# Altium footprint library Connector_SMD.PcbLib: 33 footprints (part 2 of 3)
Each footprint in its own frame and in the unit in brackets; x right, y up, seen from the top. Pads: shape width x height; smd on the part's side, far side on the other; paste and mask are expansions set on the pad; w line width, h text height; cw(c..) or ccw(c..) is an arc to the next point about the centre after c.
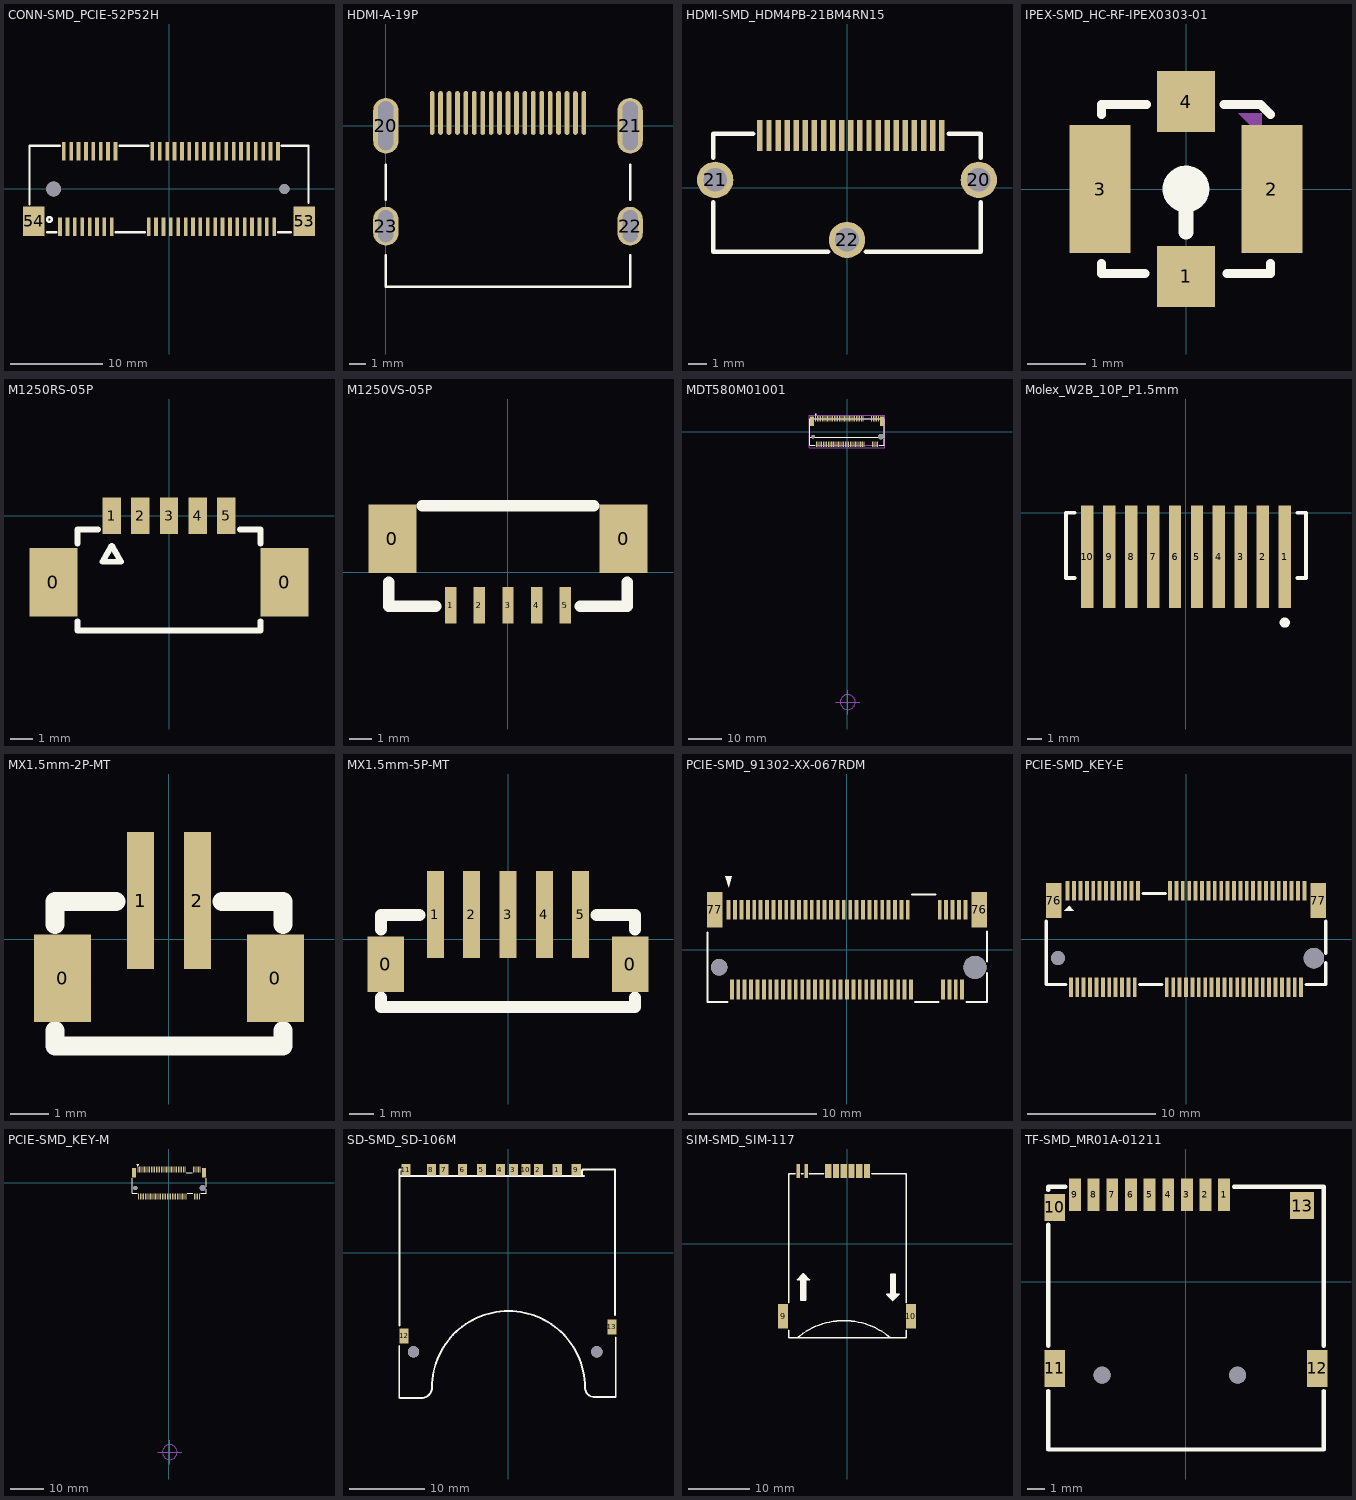
[diagram p1: the footprints below, top view; thin cyan lines are the x and y axes]

## CONN-SMD_PCIE-52P52H [mm]
pads (56):
  rect 0.4x2 smd: 1(-11.8,-4.1) 2(-11.4,4.1) 3(-11,-4.1) 4(-10.6,4.1) 5(-10.2,-4.1) 6(-9.8,4.1) 7(-9.4,-4.1) 8(-9,4.1) 9(-8.6,-4.1) 10(-8.2,4.1) 11(-7.8,-4.1) 12(-7.4,4.1) 13(-7,-4.1) 14(-6.6,4.1) 15(-6.2,-4.1) 16(-5.8,4.1) 17(-2.2,-4.1) 18(-1.8,4.1) 19(-1.4,-4.1) 20(-1,4.1) 21(-0.6,-4.1) 22(-0.2,4.1) 23(0.2,-4.1) 24(0.6,4.1) 25(1,-4.1) 26(1.4,4.1) 27(1.8,-4.1) 28(2.2,4.1) 29(2.6,-4.1) 30(3,4.1) 31(3.4,-4.1) 32(3.8,4.1) 33(4.2,-4.1) 34(4.6,4.1) 35(5,-4.1) 36(5.4,4.1) 37(5.8,-4.1) 38(6.2,4.1) 39(6.6,-4.1) 40(7,4.1) 41(7.4,-4.1) 42(7.8,4.1) 43(8.2,-4.1) 44(8.6,4.1) 45(9,-4.1) 46(9.4,4.1) 47(9.8,-4.1) 48(10.2,4.1) 49(10.6,-4.1) 50(11,4.1) 51(11.4,-4.1) 52(11.8,4.1)
  rect 2.3x3.2 smd: 53(14.65,-3.5) 54(-14.65,-3.5)
  round 1.6 hole 1.6 unplated: ""(-12.5,0)
  round 1.1 hole 1.1 unplated: ""(12.5,0)
Top Overlay:
  circle w0.254: c-12.954,-3.302 r0.254
  lines w0.254: -15.113,-1.651 -15.113,4.699 -11.831,4.699 ; -13.208,-4.699 -12.231,-4.699 ; -5.769,-4.699 -2.631,-4.699 ; -5.369,4.699 -2.231,4.699 ; 11.831,-4.699 13.208,-4.699 ; 12.231,4.699 15.113,4.699 15.113,-1.524

## HDMI-A-19P [mm]
pads (23):
  oval 0.28x2.6 smd: 1(11.75,0.76) 2(11.25,0.76) 3(10.75,0.76) 4(10.25,0.76) 5(9.75,0.76) 6(9.25,0.76) 7(8.75,0.76) 8(8.25,0.76) 9(7.75,0.76) 10(7.25,0.76) 11(6.75,0.76) 12(6.25,0.76) 13(5.75,0.76) 14(5.25,0.76) 15(4.75,0.76) 16(4.25,0.76) 17(3.75,0.76) 18(3.25,0.76) 19(2.75,0.76)
  oval 1.5x3.3 hole 0.9 slot 2.9 at 90 deg: 20(0,0) 21(14.5,0)
  oval 1.5x2.3 hole 0.9 slot 1.9 at 90 deg: 22(14.5,-5.96) 23(0,-5.96)
Top Overlay:
  lines w0.15: 0,-7.696 0,-9.568 14.5,-9.568 14.5,-7.696 ; 0,-4.394 0,-2.311 ; 14.5,-4.394 14.5,-2.311
3D body "1747981-1.stp": height 6.13, standoff -2.15, extent -0.229,-10.343 14.772,1.657

## HDMI-SMD_HDM4PB-21BM4RN15 [mm]
pads (24):
  rect 0.3x1.7 smd: 0(4.71,2.875) 0(5.21,2.875) 1(4.21,2.875) 2(3.71,2.875) 3(3.21,2.875) 4(2.71,2.875) 5(2.21,2.875) 6(1.71,2.875) 7(1.21,2.875) 8(0.71,2.875) 9(0.21,2.875) 10(-0.29,2.875) 11(-0.79,2.875) 12(-1.29,2.875) 13(-1.79,2.875) 14(-2.29,2.875) 15(-2.79,2.875) 16(-3.29,2.875) 17(-3.79,2.875) 18(-4.29,2.875) 19(-4.79,2.875)
  round 2 hole 1.3: 20(7.25,0.425) 21(-7.25,0.425) 22(0,-2.875)
Top Overlay:
  lines w0.254: -7.366,-0.801 -7.366,-3.52 -1.048,-3.52 ; -7.366,1.651 -7.366,2.957 -5.207,2.957 ; -5.334,2.957 -5.171,2.957 ; 1.048,-3.52 7.366,-3.52 7.366,-0.801 ; 5.591,2.957 7.366,2.957 7.366,1.651
3D body "CN1.stp": height 13, standoff -2.7, extent -7.499,-3.094 7.499,3.206

## IPEX-SMD_HC-RF-IPEX0303-01 [mm]
pads (4):
  rect 1x1.05 smd: 1(0,-1.5) 4(0,1.5)
  rect 1.05x2.2 smd: 2(1.475,0) 3(-1.475,0)
Top Overlay:
  circle w0.4: c0,0 r0.2
  lines w0.152: -1.45,-1.28 -1.45,-1.3 -1.45,-1.45 -0.701,-1.45 ; -1.45,1.28 -1.45,1.4 -1.45,1.45 -1.4,1.45 -0.68,1.45 ; 0.65,1.45 1.1,1.45 1.28,1.45 1.45,1.28 1.447,1.28 1.277,1.45 ; 0.701,-1.45 1.097,-1.45 1.45,-1.45 1.45,-1.3 1.45,-1.28
  lines w0.254: 0,-0.744 0,-0.3
Mechanical 15:
  circle w0.4: c0,-1.45 r0.2
  region: 1.3,0.9 1.3,1.3 0.9,1.3

## M1250RS-05P [mm]
pads (7):
  rect 2.1x3 smd: 0(-5.05,-2.9) 0(5.05,-2.9)
  rect 0.8x1.6 smd: 1(-2.5,0) 2(-1.25,0) 3(0,0) 4(1.25,0) 5(2.5,0)
Top Overlay:
  lines w0.254: -4,-4.6 -4,-5 4,-5 4,-4.6 ; -4,-1.2 -4,-0.6 -3.1,-0.6 ; 3.1,-0.6 4,-0.6 4,-1.2 ; -2.9,-2 -2.1,-2 -2.5,-1.3 -2.9,-2
3D body: height 3.7, standoff 0, extent -4,-5 4,-0.6

## M1250VS-05P [mm]
pads (7):
  rect 2.1x3 smd: 0(-5.05,1.45) 0(5.05,1.45)
  rect 0.5x1.6 smd: 1(-2.5,-1.45) 2(-1.25,-1.45) 3(0,-1.45) 4(1.25,-1.45) 5(2.5,-1.45)
Top Overlay:
  lines w0.5: -5.2,-0.45 -5.2,-1.5 -3.15,-1.5 ; -3.75,2.9 3.75,2.9 ; 3.15,-1.5 5.2,-1.5 5.2,-0.45
3D body: height 4.7, standoff 0, extent -5.2,-1.5 5.2,2.9

## MDT580M01001 [mm]
pads (71):
  rect 0.3x1.55 smd: 1(-9.25,3.775) 2(-9,-3.775) 3(-8.75,3.775) 4(-8.5,-3.775) 5(-8.25,3.775) 6(-8,-3.775) 7(-7.75,3.775) 8(-7.5,-3.775) 9(-7.25,3.775) 10(-7,-3.775) 11(-6.75,3.775) 12(-6.5,-3.775) 13(-6.25,3.775) 14(-6,-3.775) 15(-5.75,3.775) 16(-5.5,-3.775) 17(-5.25,3.775) 18(-5,-3.775) 19(-4.75,3.775) 20(-4.5,-3.775) 21(-4.25,3.775) 22(-4,-3.775) 23(-3.75,3.775) 24(-3.5,-3.775) 25(-3.25,3.775) 26(-3,-3.775) 27(-2.75,3.775) 28(-2.5,-3.775) 29(-2.25,3.775) 30(-2,-3.775) 31(-1.75,3.775) 32(-1.5,-3.775) 33(-1.25,3.775) 34(-1,-3.775) 35(-0.75,3.775) 36(-0.5,-3.775) 37(-0.25,3.775) 38(0,-3.775) 39(0.25,3.775) 40(0.5,-3.775) 41(0.75,3.775) 42(1,-3.775) 43(1.25,3.775) 44(1.5,-3.775) 45(1.75,3.775) 46(2,-3.775) 47(2.25,3.775) 48(2.5,-3.775) 49(2.75,3.775) 50(3,-3.775) 51(3.25,3.775) 52(3.5,-3.775) 53(3.75,3.775) 54(4,-3.775) 55(4.25,3.775) 56(4.5,-3.775) 57(4.75,3.775) 58(5,-3.775) 67(7.25,3.775) 68(7.5,-3.775) 69(7.75,3.775) 70(8,-3.775) 71(8.25,3.775) 72(8.5,-3.775) 73(8.75,3.775) 74(9,-3.775) 75(9.25,3.775)
  round 1.1 hole 1.1 unplated: None(-10,-1.5)
  round 1.6 hole 1.6 unplated: None(10,-1.5)
  rect 1.2x2.75 smd: SH1(-10.35,3) SH2(10.35,3)
Top Overlay:
  circle w0.2: c-9.225,5.075 r0.1
  lines w0.1: -10.95,-4 -10.95,-1.75 -8.76,-1.75
  lines w0.127: -10.95,1 -10.95,-4 -9.5,-4 ; -10.575,3.75 -6.175,3.75 ; -6.075,3.75 10.575,3.75 10.95,3.75 ; 6.075,-1.75 -10.575,-1.75 -10.95,-1.75 ; 6.175,-1.75 10.575,-1.75 10.95,-1.75 ; 9.5,-4 10.95,-4 10.95,-2.1 ; 10.95,-0.9 10.95,1 ; -10.95,-1.75 -10.95,3.75 ; -10.95,-1.75 -10.95,3.75 ; -10.95,3.75 10.95,3.75 ; 10.95,-1.75 10.95,3.75 ; 10.95,-1.75 10.95,3.75
Mechanical 3:
  circle w0.2: c0.223,-79.843 r2.209
  lines w0.2: -3.298,-79.843 0.223,-79.843 ; 0.223,-83.364 0.223,-79.843 ; 0.223,-76.323 0.223,-79.843 ; 3.743,-79.843 0.223,-79.843
Mechanical 4:
  circle w0.2: c-9.25,4.115 r0.1
  circle w0.2: c-9.25,4.115 r0.1
  lines w0.127: -10.95,-4 10.95,-4 ; -10.95,-4 -10.95,3.75 ; -10.95,-4 10.95,-4 ; -10.95,-4 -10.95,3.75 ; -10.95,3.75 10.95,3.75 ; -10.95,3.75 10.95,3.75 ; 10.95,-4 10.95,3.75 ; 10.95,-4 10.95,3.75
Mechanical 16:
  lines w0.05: -11.2,-4.8 11.2,-4.8 11.2,4.8 -11.2,4.8 -11.2,-4.8
3D body "M-mdt580m0x001.step": height 5.95, standoff -0.6, extent -10.99,-4.27 11.01,4.28

## Molex_W2B_10P_P1.5mm [mm]
pads (10):
  rect 0.85x7 smd paste-1 mask+0.102: 1(6.75,-3)
  rect 0.85x7 smd paste-1: 2(5.25,-3) 3(3.75,-3) 4(2.25,-3) 5(0.75,-3) 6(-0.75,-3) 7(-2.25,-3) 8(-3.75,-3) 9(-5.25,-3) 10(-6.75,-3)
Top Overlay:
  circle w0.5: c6.75,-7.5 r0.1
  lines w0.254: -7.6,-4.45 -8.2,-4.45 -8.2,0 -7.6,0 ; 7.6,-4.45 8.2,-4.45 8.2,0 7.6,0
Top Paste:
  rectangle: -7.175,-6.5 -6.325,-3.95
  rectangle: -7.175,-2.95 -6.325,0.5
  rectangle: -5.675,-6.5 -4.825,-3.95
  rectangle: -5.675,-2.95 -4.825,0.5
  rectangle: -4.175,-6.5 -3.325,-3.95
  rectangle: -4.175,-2.95 -3.325,0.5
  rectangle: -2.675,-6.5 -1.825,-3.95
  rectangle: -2.675,-2.95 -1.825,0.5
  rectangle: -1.175,-6.5 -0.325,-3.95
  rectangle: -1.175,-2.95 -0.325,0.5
  rectangle: 0.325,-6.5 1.175,-3.95
  rectangle: 0.325,-2.95 1.175,0.5
  rectangle: 1.825,-6.5 2.675,-3.95
  rectangle: 1.825,-2.95 2.675,0.5
  rectangle: 3.325,-6.5 4.175,-3.95
  rectangle: 3.325,-2.95 4.175,0.5
  rectangle: 4.825,-6.5 5.675,-3.95
  rectangle: 4.825,-2.95 5.675,0.5
  rectangle: 6.325,-2.95 7.175,0.5
  rectangle: 6.325,-6.5 7.175,-3.95
Top Solder:
  rectangle: 6.225,-6.6 7.275,-3.85
  rectangle: 6.225,-3.05 7.275,0.6
  rectangle: 4.725,-3.05 5.775,0.6
  rectangle: 4.725,-6.6 5.775,-3.85
  rectangle: 3.225,-3.05 4.275,0.6
  rectangle: 3.225,-6.6 4.275,-3.85
  rectangle: 1.725,-3.05 2.775,0.6
  rectangle: 1.725,-6.6 2.775,-3.85
  rectangle: 0.225,-3.05 1.275,0.6
  rectangle: 0.225,-6.6 1.275,-3.85
  rectangle: -1.275,-3.05 -0.225,0.6
  rectangle: -1.275,-6.6 -0.225,-3.85
  rectangle: -2.775,-3.05 -1.725,0.6
  rectangle: -2.775,-6.6 -1.725,-3.85
  rectangle: -4.275,-3.05 -3.225,0.6
  rectangle: -4.275,-6.6 -3.225,-3.85
  rectangle: -5.775,-3.05 -4.725,0.6
  rectangle: -5.775,-6.6 -4.725,-3.85
  region: -6.225,0.6 -7.275,0.6 -7.275,-3.05 -6.225,-3.05
  region: -6.225,-3.85 -7.275,-3.85 -7.275,-6.6 -6.225,-6.6
3D body "87437-1043.stp": height 5.77, standoff 0.02, extent -8.15,-6 8.15,0

## MX1.5mm-2P-MT [mm]
pads (4):
  rect 1.5x2.3 smd: 0(-2.8,-1.025) 0(2.8,-1.025)
  rect 0.7x3.6 smd: 1(-0.75,1.025) 2(0.75,1.025)
Top Overlay:
  lines w0.5: -3,-2.4 -3,-2.8 3,-2.8 3,-2.4 ; -3,0.4 -3,1 -1.4,1 ; 1.4,1 3,1 3,0.4
3D body: height 5, standoff 0, extent -3,-2.8 3,1

## MX1.5mm-5P-MT [mm]
pads (7):
  rect 1.5x2.3 smd: 0(-5.05,-1.025) 0(5.05,-1.025)
  rect 0.7x3.6 smd: 1(-3,1.025) 2(-1.5,1.025) 3(0,1.025) 4(1.5,1.025) 5(3,1.025)
Top Overlay:
  lines w0.5: -5.25,-2.4 -5.25,-2.8 5.25,-2.8 5.25,-2.4 ; -5.25,0.4 -5.25,1 -3.65,1 ; 3.65,1 5.25,1 5.25,0.4
3D body: height 5, standoff 0, extent -5.25,-2.8 5.25,1

## PCIE-SMD_91302-XX-067RDM [mm]
pads (71):
  rect 0.3x1.55 smd: 1(-9.25,3.114) 2(-9,-3.115) 3(-8.75,3.114) 4(-8.5,-3.115) 5(-8.25,3.114) 6(-8,-3.115) 7(-7.75,3.114) 8(-7.5,-3.115) 9(-7.25,3.114) 10(-7,-3.115) 11(-6.75,3.114) 12(-6.5,-3.115) 13(-6.25,3.114) 14(-6,-3.115) 15(-5.75,3.114) 16(-5.5,-3.115) 17(-5.25,3.114) 18(-5,-3.115) 19(-4.75,3.114) 20(-4.5,-3.115) 21(-4.25,3.114) 22(-4,-3.115) 23(-3.75,3.114) 24(-3.5,-3.115) 25(-3.25,3.114) 26(-3,-3.115) 27(-2.75,3.114) 28(-2.5,-3.115) 29(-2.25,3.114) 30(-2,-3.115) 31(-1.75,3.114) 32(-1.5,-3.115) 33(-1.25,3.114) 34(-1,-3.115) 35(-0.75,3.114) 36(-0.5,-3.115) 37(-0.25,3.114) 38(0,-3.115) 39(0.25,3.114) 40(0.5,-3.115) 41(0.75,3.114) 42(1,-3.115) 43(1.25,3.114) 44(1.5,-3.115) 45(1.75,3.114) 46(2,-3.115) 47(2.25,3.114) 48(2.5,-3.115) 49(2.75,3.114) 50(3,-3.115) 51(3.25,3.114) 52(3.5,-3.115) 53(3.75,3.114) 54(4,-3.115) 55(4.25,3.114) 56(4.5,-3.115) 57(4.75,3.114) 58(5,-3.115) 67(7.25,3.114) 68(7.5,-3.115) 69(7.75,3.114) 70(8,-3.115) 71(8.25,3.114) 72(8.5,-3.115) 73(8.75,3.114) 74(9,-3.115) 75(9.25,3.114)
  rect 1.2x2.75 smd: 76(10.35,3.115) 77(-10.35,3.115)
  round 1.3 hole 1.3 unplated: ""(-10,-1.386)
  round 1.8 hole 1.8 unplated: ""(10,-1.386)
Top Overlay:
  region: -9,5.74 -9.5,5.74 -9.25,4.865
  lines w0.15: -10.92,1.33 -10.92,-4.09 -9.329,-4.09 ; 5.08,4.29 6.92,4.29 ; 5.329,-4.09 7.171,-4.09 ; 9.329,-4.09 10.94,-4.09 10.94,-1.829 ; 10.94,-0.941 10.94,1.43
Mechanical 15:
  circle w0.725: c10,-1.386 r0.363
  circle w0.475: c-10,-1.386 r0.238

## PCIE-SMD_KEY-E [mm]
pads (71):
  rect 0.3x1.55 smd: 1(-9.25,3.775) 2(-9,-3.775) 3(-8.75,3.775) 4(-8.5,-3.775) 5(-8.25,3.775) 6(-8,-3.775) 7(-7.75,3.775) 8(-7.5,-3.775) 9(-7.25,3.775) 10(-7,-3.775) 11(-6.75,3.775) 12(-6.5,-3.775) 13(-6.25,3.775) 14(-6,-3.775) 15(-5.75,3.775) 16(-5.5,-3.775) 17(-5.25,3.775) 18(-5,-3.775) 19(-4.75,3.775) 20(-4.5,-3.775) 21(-4.25,3.775) 22(-4,-3.775) 23(-3.75,3.775) 32(-1.5,-3.775) 33(-1.25,3.775) 34(-1,-3.775) 35(-0.75,3.775) 36(-0.5,-3.775) 37(-0.25,3.775) 38(0,-3.775) 39(0.25,3.775) 40(0.5,-3.775) 41(0.75,3.775) 42(1,-3.775) 43(1.25,3.775) 44(1.5,-3.775) 45(1.75,3.775) 46(2,-3.775) 47(2.25,3.775) 48(2.5,-3.775) 49(2.75,3.775) 50(3,-3.775) 51(3.25,3.775) 52(3.5,-3.775) 53(3.75,3.775) 54(4,-3.775) 55(4.25,3.775) 56(4.5,-3.775) 57(4.75,3.775) 58(5,-3.775) 59(5.25,3.775) 60(5.5,-3.775) 61(5.75,3.775) 62(6,-3.775) 63(6.25,3.775) 64(6.5,-3.775) 65(6.75,3.775) 66(7,-3.775) 67(7.25,3.775) 68(7.5,-3.775) 69(7.75,3.775) 70(8,-3.775) 71(8.25,3.775) 72(8.5,-3.775) 73(8.75,3.775) 74(9,-3.775) 75(9.25,3.775)
  rect 1.2x2.75 smd: 76(-10.35,3) 77(10.35,3)
  round 1.1 hole 1.1 unplated: ""(-10,-1.5)
  round 1.6 hole 1.6 unplated: ""(10,-1.5)
Top Overlay:
  region: -9.144,2.604 -9.525,2.223 -8.763,2.223
  lines w0.254: -10.922,1.394 -10.922,-3.556 -9.381,-3.556 ; -3.619,-3.556 -1.881,-3.556 ; -3.369,3.556 -1.631,3.556 ; 9.381,-3.556 10.922,-3.556 10.922,-1.864 ; 10.922,-1.136 10.922,1.394

## PCIE-SMD_KEY-M [mm]
pads (71):
  rect 0.3x1.8 smd: 1(-9.25,4) 2(-9,-4) 3(-8.75,4) 4(-8.5,-4) 5(-8.25,4) 6(-8,-4) 7(-7.75,4) 8(-7.5,-4) 9(-7.25,4) 10(-7,-4) 11(-6.75,4) 12(-6.5,-4) 13(-6.25,4) 14(-6,-4) 15(-5.75,4) 16(-5.5,-4) 17(-5.25,4) 18(-5,-4) 19(-4.75,4) 20(-4.5,-4) 21(-4.25,4) 22(-4,-4) 23(-3.75,4) 24(-3.5,-4) 25(-3.25,4) 26(-3,-4) 27(-2.75,4) 28(-2.5,-4) 29(-2.25,4) 30(-2,-4) 31(-1.75,4) 32(-1.5,-4) 33(-1.25,4) 34(-1,-4) 35(-0.75,4) 36(-0.5,-4) 37(-0.25,4) 38(0,-4) 39(0.25,4) 40(0.5,-4) 41(0.75,4) 42(1,-4) 43(1.25,4) 44(1.5,-4) 45(1.75,4) 46(2,-4) 47(2.25,4) 48(2.5,-4) 49(2.75,4) 50(3,-4) 51(3.25,4) 52(3.5,-4) 53(3.75,4) 54(4,-4) 55(4.25,4) 56(4.5,-4) 57(4.75,4) 58(5,-4) 67(7.25,4) 68(7.5,-4) 69(7.75,4) 70(8,-4) 71(8.25,4) 72(8.5,-4) 73(8.75,4) 74(9,-4) 75(9.25,4)
  rect 1.2x2.75 smd: SH1(-10.35,3.005) SH2(10.35,3.005)
  round 1.3 hole 1.3 unplated: ""(-10,-1.495)
  round 1.8 hole 1.8 unplated: ""(10,-1.495)
Top Overlay:
  region: -9,5.63 -9.5,5.63 -9.25,4.755
  lines w0.254: -10.95,1.399 -10.95,-3 -9.381,-3 ; 5.131,3 6.869,3 ; 5.381,-3 7.119,-3 ; 9.381,-3 11,-3 11,-1.932 ; 11,-1.058 11,1.404
Mechanical 3:
  circle w0.2: c0.223,-79.838 r2.209
  lines w0.2: -3.298,-79.838 0.223,-79.838 ; 0.223,-83.359 0.223,-79.838 ; 0.223,-76.318 0.223,-79.838 ; 3.743,-79.838 0.223,-79.838
3D body "3D_PCB1_2022-04-16.stp": height 4, standoff -0.6, extent -10.925,-4.075 10.925,4.075

## SD-SMD_SD-106M [mm]
pads (15):
  rect 1.2x1.5 smd: 1(6.505,10.975) 2(4.005,10.975) 3(0.705,10.975) 4(-0.995,10.975) 5(-3.495,10.975) 6(-5.995,10.975) 7(-8.425,10.975) 8(-10.125,10.975) 9(9.005,10.975) 10(2.355,10.975) 11(-13.475,10.975)
  rect 1.2x2 smd: 12(-13.725,-10.975) 13(13.725,-9.775)
  round 1.5 hole 1.5 unplated: ""(-12.475,-13.075) ""(11.725,-13.075)
Top Overlay:
  lines w0.254: -14.351,-19.177 -14.351,-12.319 ; -14.316,-9.599 -14.316,10.975 -14.189,10.975 ; -14.224,-19.177 -11.43,-19.177 ccw(c-11.43,-17.78) -10.033,-17.78 cw(c0.063,-17.78) 10.16,-17.78 ccw(c11.43,-17.78) 11.43,-19.05 14.097,-19.05 ccw(c14.097,-18.923) 14.224,-18.923 14.224,-11.176 ; -14.101,10.16 10.029,10.16 ; 9.779,10.16 9.779,10.795 cw(c9.906,10.795) 9.906,10.922 ; 9.814,10.975 14.132,10.975 14.132,-8.202

## SIM-SMD_SIM-117 [mm]
pads (10):
  rect 1x2.3 smd: 1(3.28,11.875) 2(2.01,11.875) 3(0.74,11.875) 4(-0.53,11.875) 5(-1.8,11.875) 6(-3.07,11.875)
  rect 0.5x2.3 smd: 7(-6.66,11.875) 8(-7.96,11.875)
  rect 1.7x4 smd: 9(-10.45,-11.875) 10(10.45,-11.875)
Top Overlay:
  region: -6.754,-5.909 -6.754,-9.211 -7.516,-9.211 -7.516,-5.909 -8.151,-5.909 -7.135,-4.893 -7.134,-4.893 -6.119,-5.909
  region: 7.112,-8.257 7.112,-4.955 7.874,-4.955 7.874,-8.257 8.509,-8.257 7.494,-9.272 7.492,-9.272 6.477,-8.257
  lines w0.254: -9.55,-14.101 -9.55,-15.375 9.65,-15.375 9.65,-14.106 ; -9.55,-9.649 -9.55,11.465 -8.441,11.465 ; -8.151,-5.909 -7.516,-5.909 -7.516,-9.211 -6.753,-9.211 -6.753,-5.909 -6.118,-5.909 -7.134,-4.893 -8.15,-5.909 ; -8.12,-15.375 cw(c-0.5,-24.265) 7.12,-15.375 ; -7.479,11.465 -7.141,11.465 ; -6.179,11.465 -3.801,11.465 ; 4.011,11.465 9.64,11.465 ; 9.65,-9.644 9.65,11.465 ; 6.476,-8.256 7.492,-9.272 8.508,-8.257 8.509,-8.257 7.874,-8.257 7.874,-4.955 7.111,-4.955 7.111,-8.256 6.476,-8.256
Mechanical 15:
  region: 6.477,-8.195 7.493,-9.21 8.509,-8.195 7.874,-8.195 7.874,-4.893 7.112,-4.893 7.112,-8.195 6.477,-8.195
  region: -6.118,-5.909 -7.134,-4.893 -8.151,-5.908 -7.516,-5.908 -7.516,-9.21 -6.754,-9.21 -6.754,-5.908 -6.119,-5.908

## TF-SMD_MR01A-01211 [mm]
pads (15):
  rect 0.7x1.9 smd: 1(2.25,5.125) 2(1.15,5.125) 3(0.05,5.125) 4(-1.05,5.125) 5(-2.15,5.125) 6(-3.25,5.125) 7(-4.35,5.125) 8(-5.45,5.125) 9(-6.55,5.125)
  rect 1.2x1.6 smd: 10(-7.75,4.375)
  rect 1.2x2.2 smd: 11(-7.75,-5.125) 12(7.75,-5.125)
  rect 1.4x1.6 smd: 13(6.85,4.475)
  round 1 hole 1 unplated: ""(-4.95,-5.525) ""(3.05,-5.527)
Top Overlay:
  lines w0.254: -8.128,-6.456 -8.128,-9.906 8.128,-9.906 8.128,-6.456 ; -8.128,-3.794 -8.128,3.344 ; -8.128,5.406 -8.128,5.588 -7.131,5.588 ; 2.831,5.588 8.128,5.588 8.128,-3.794
3D body "User Library-MEM2055-00-190-01-A_revG.STEP": height 1.85, standoff -0.6, extent -8,-9.8 8,5.45